# EAGLE library part BQ2002TP (library texas)
CHARGE MANAGEMENT IC
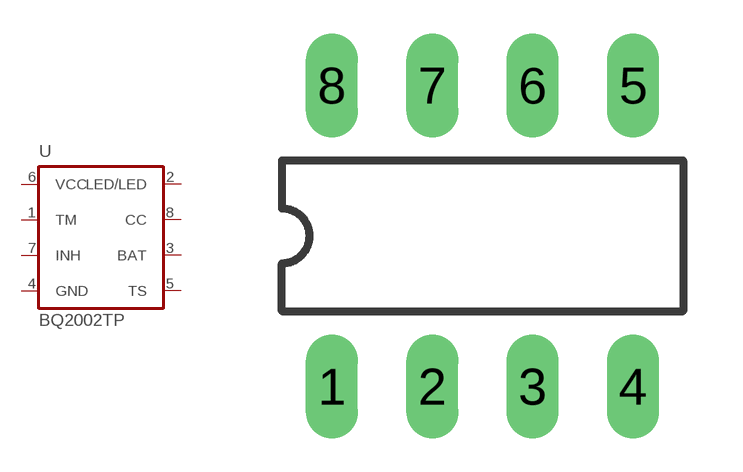
[diagram p4: symbol with the pads of DIL08; footprint DIL08]

Designator prefix U

## BQ2002TP  [DIL08]
1  TM  in
2  LED/LED  oc
3  BAT  in
4  GND  pwr
5  TS  in
6  VCC  pwr
7  INH  in
8  CC  oc

## Footprint DIL08 (pad centres in mm)
Dual In Line Package
drill 0.813 long: 1 -3.81,-3.81; 2 -1.27,-3.81; 3 1.27,-3.81; 4 3.81,-3.81; 5 3.81,3.81; 6 1.27,3.81; 7 -1.27,3.81; 8 -3.81,3.81